# Altium schematic symbol library EG_robot.SchLib: 19 symbols
Pins are listed as number, name and electrical type; pins without a type are passive.

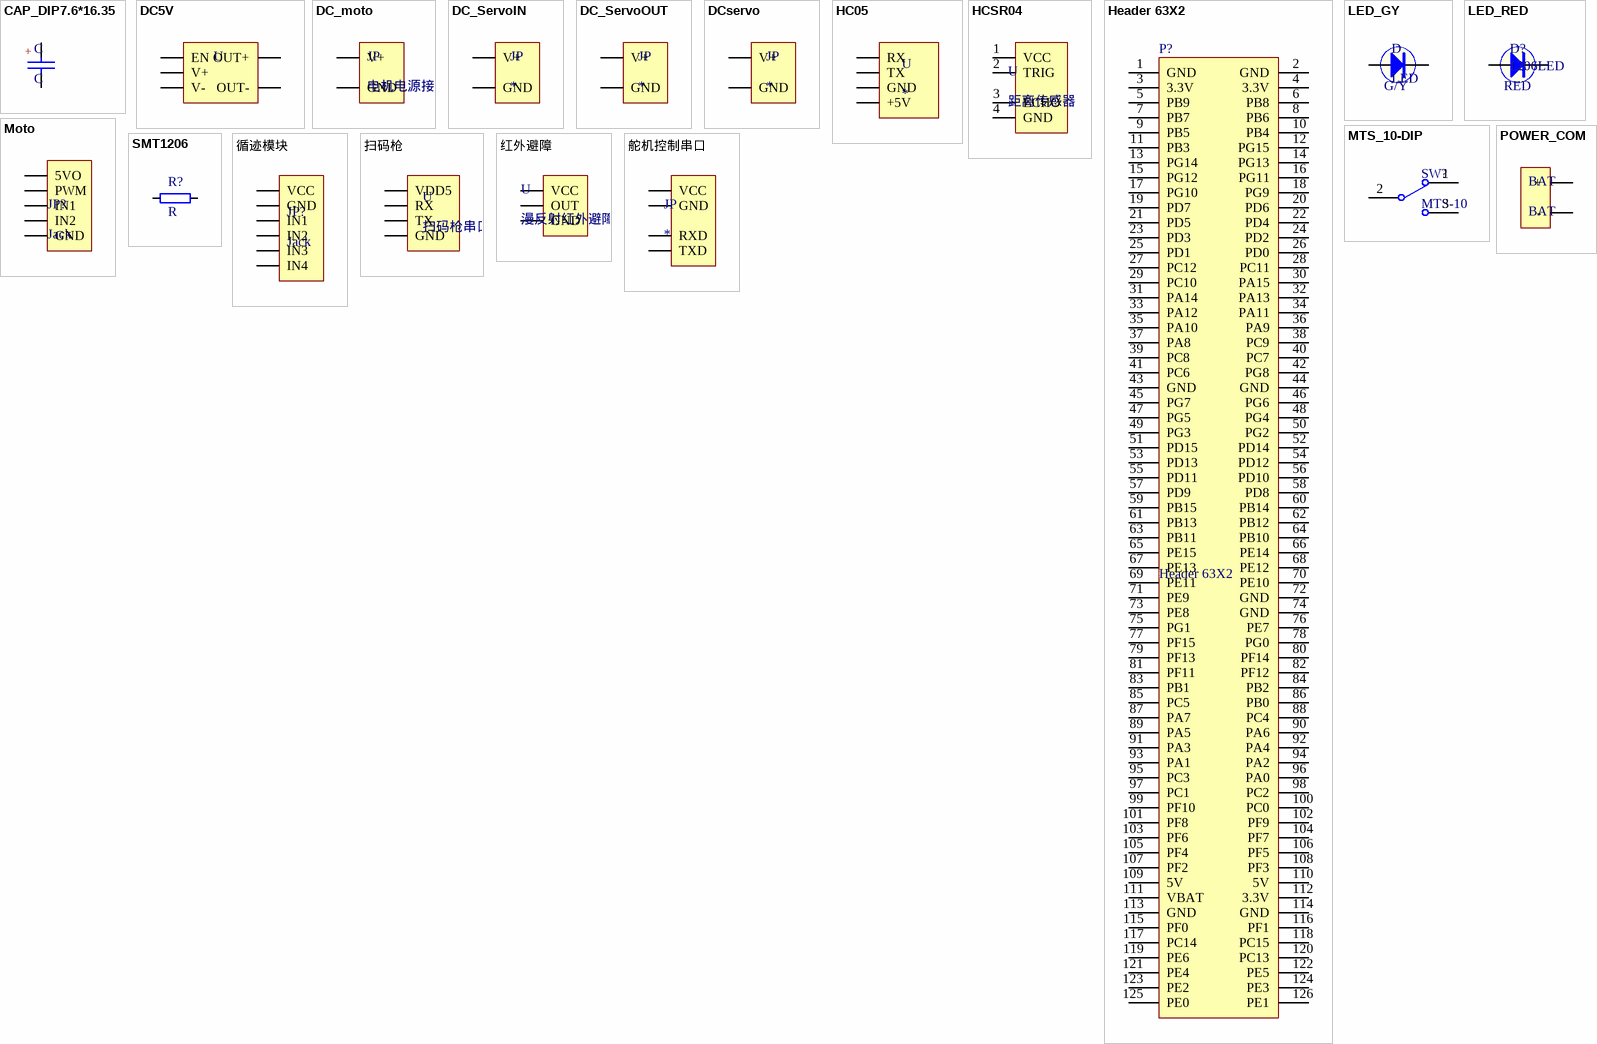
[diagram p0: symbols CAP_DIP7.6*16.35 to 舵机控制串口]

## CAP_DIP7.6*16.35
designator C, comment C
7.6*16*35
footprint CAP 7.5*16*31.5 - BK (脚距7.5mm直径16mm高度31.5mm)
pins: 1, 2
text: +

## DC5V
designator U
DC5V Fixed Buck-Boost voltage regulator
footprint DC5V_BUCKBOOST (自动升降压稳压模块)
pins: 1 OUT-, 2 OUT+, 3 EN, 4 V+, 5 V-

## DC_moto
designator JP, comment 电机电源接口
footprint SMALL_POWER_JACK
pins: 1 V+, 2 GND

## DC_ServoIN
designator JP
footprint SMALL_POWER_JACK
pins: 1 V+, 2 GND

## DC_ServoOUT
designator JP
footprint SMALL_POWER_JACK
pins: 1 V+, 2 GND

## DCservo
designator JP
Power input for Servo Control Board
footprint SMALL_POWER_JACK
pins: 1 V+, 2 GND

## HC05
designator U
footprint XH2.54-LI-4P (接插件，4P)
pins: 1 RX, 2 TX, 3 GND, 4 +5V

## HCSR04
designator U, comment 距离传感器
Ultrasonic distant detector
footprint XH2.54-LI-4P (接插件，4P)
pins: 1 VCC, 2 TRIG, 3 ECHO, 4 GND

## Header 63X2
designator P?
Header, 126-Pin, Dual row; LatestRevisionDate: 17-Jul-2002; LatestRevisionNote: Re-released for DXP Platform.; Publisher: Altium Limited
footprint YD最小系统版接口
pins: 1 GND, 2 GND, 3 3.3V, 4 3.3V, 5 PB9, 6 PB8, 7 PB7, 8 PB6, 9 PB5, 10 PB4, 11 PB3, 12 PG15, 13 PG14, 14 PG13, 15 PG12, 16 PG11, 17 PG10, 18 PG9, 19 PD7, 20 PD6, 21 PD5, 22 PD4, 23 PD3, 24 PD2, 25 PD1, 26 PD0, 27 PC12, 28 PC11, 29 PC10, 30 PA15, 31 PA14, 32 PA13, 33 PA12, 34 PA11, 35 PA10, 36 PA9, 37 PA8, 38 PC9, 39 PC8, 40 PC7, 41 PC6, 42 PG8, 43 GND, 44 GND, 45 PG7, 46 PG6, 47 PG5, 48 PG4, 49 PG3, 50 PG2, 51 PD15, 52 PD14, 53 PD13, 54 PD12, 55 PD11, 56 PD10, 57 PD9, 58 PD8, 59 PB15, 60 PB14, 61 PB13, 62 PB12, 63 PB11, 64 PB10, 65 PE15, 66 PE14, 67 PE13, 68 PE12, 69 PE11, 70 PE10, 71 PE9, 72 GND, 73 PE8, 74 GND, 75 PG1, 76 PE7, 77 PF15, 78 PG0, 79 PF13, 80 PF14, 81 PF11, 82 PF12, 83 PB1, 84 PB2, 85 PC5, 86 PB0, 87 PA7, 88 PC4, 89 PA5, 90 PA6, 91 PA3, 92 PA4, 93 PA1, 94 PA2, 95 PC3, 96 PA0, 97 PC1, 98 PC2, 99 PF10, 100 PC0, 101 PF8, 102 PF9, 103 PF6, 104 PF7, 105 PF4, 106 PF5, 107 PF2, 108 PF3, 109 5V, 110 5V, 111 VBAT, 112 3.3V, 113 GND, 114 GND, 115 PF0, 116 PF1, 117 PC14, 118 PC15, 119 PE6, 120 PC13, 121 PE4, 122 PE5, 123 PE2, 124 PE3, 125 PE0, 126 PE1

## LED_GY
designator D, comment LED
footprint LED 1206Y (黄色1206LED)
pins: 1 A, 2 K
text: G/Y

## LED_RED
designator D?, comment 1206LED
LED
footprint LED 1206R (红色1206LED)
pins: 1 A, 2 K
text: RED

## Moto
designator JP?, comment Jack
White Small
footprint XH2.54-LI-5P (接插件，5P)
footprint XH2.54-WI-5P (接插件，5P)
pins: 1 5VO, 2 PWM, 3 IN1, 4 IN2, 5 GND

## MTS_10-DIP
designator SW?, comment MTS-10
MTS-10 series
footprint MTS-10x (MTS10系列3脚扭子开关)
pins: 1, 2, 3

## POWER_COM
designator BAT, comment BAT
footprint POWER (POWER COM)
pins: 1 +, 2 -

## SMT1206
designator R?, comment R
SMT_1206
footprint 1206R
pins: 1, 2

## 循迹模块
designator JP?, comment Jack
White Small
footprint XH2.54-LI-6P (接插件，6P)
pins: 1 VCC, 2 GND, 3 IN1, 4 IN2, 5 IN3, 6 IN4

## 扫码枪
designator U, comment 扫码枪串口
footprint XH2.54-LI-4P (接插件，4P)
pins: 1 VDD5, 2 RX, 3 TX, 4 GND

## 红外避障
designator U, comment 漫反射红外避障
footprint XH2.54-LI-3P (接插件，3P)
pins: 1 VCC, 2 OUT, 3 GND

## 舵机控制串口
designator JP
footprint XH2.54-LI-4P (接插件，4P)
pins: 1 VCC, 2 GND, 3 RXD, 4 TXD